# EAGLE library part TPS6513* (library ic-TI)
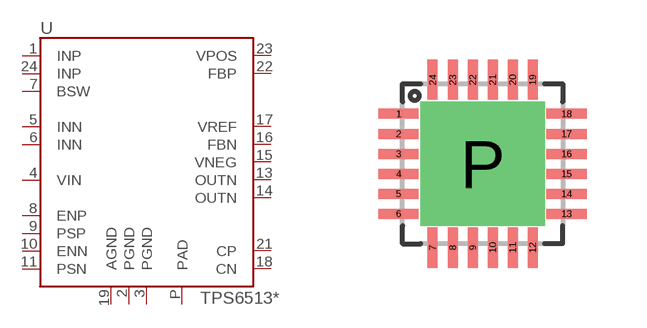
[diagram p23: symbol with the pads of QFN24-0.5; footprint QFN24-0.5]

Designator prefix U

## TPS65130, TPS65131  [QFN24-0.5]
1  INP
2  PGND
3  PGND
4  VIN
5  INN
6  INN
7  BSW
8  ENP
9  PSP
10  ENN
11  PSN
13  OUTN
14  OUTN
15  VNEG
16  FBN
17  VREF
18  CN
19  AGND
21  CP
22  FBP
23  VPOS
24  INP
P  PAD

## Footprint QFN24-0.5 (pad centres in mm)
smd 1 x 0.25: 1 -2.1,1.25; 2 -2.1,0.75; 3 -2.1,0.25; 4 -2.1,-0.25; 5 -2.1,-0.75; 6 -2.1,-1.25; 13 2.1,-1.25; 14 2.1,-0.75; 15 2.1,-0.25; 16 2.1,0.25; 17 2.1,0.75; 18 2.1,1.25
smd 0.25 x 1: 7 -1.25,-2.1; 8 -0.75,-2.1; 9 -0.25,-2.1; 10 0.25,-2.1; 11 0.75,-2.1; 12 1.25,-2.1; 19 1.25,2.1; 20 0.75,2.1; 21 0.25,2.1; 22 -0.25,2.1; 23 -0.75,2.1; 24 -1.25,2.1
drill 2.1 pad 2.7 square: P 0,0